# Altium schematic symbol library Data Acquisition - Digital to Analog Converters (DAC).SchLib: 3 symbols
Pins are listed as number, name and electrical type; pins without a type are passive.

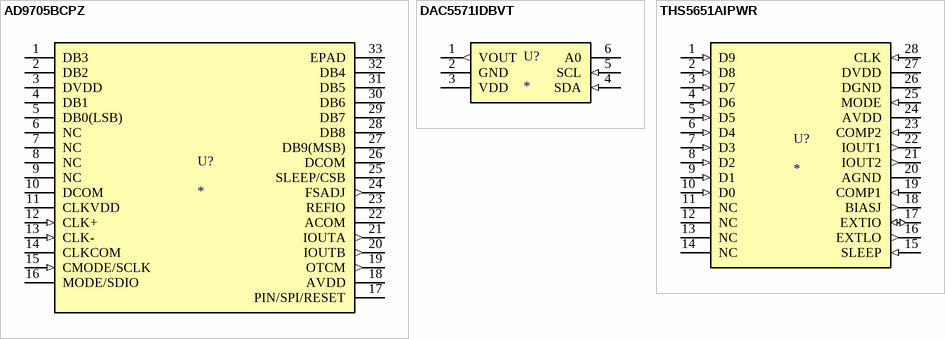
[diagram p0: symbols AD9705BCPZ to THS5651AIPWR]

## AD9705BCPZ
designator U?
IC DAC 10BIT A-OUT 32LFCSP; Supplier 1: Digi-Key; Supplier 2: Mouser; Supplier 3: Arrow Electronics; Supplier Part Number 1: AD9705BCPZ-ND; Supplier Part Number 2: 584-AD9705BCPZ; Supplier Part Number 3: AD9705BCPZ
footprint ANALOG_32-LFCSP-VQ (5x5)
pins: 1 DB3, 2 DB2, 3 DVDD (power), 4 DB1, 5 DB0(LSB), 6 NC, 7 NC, 8 NC, 9 NC, 10 DCOM, 11 CLKVDD (power), 12 CLK+ (in), 13 CLK- (in), 14 CLKCOM, 15 CMODE/SCLK (in), 16 MODE/SDIO, 17 PIN/SPI/RESET, 18 AVDD (power), 19 OTCM (out), 20 IOUTB (out), 21 IOUTA (out), 22 ACOM, 23 REFIO, 24 FSADJ (out), 25 SLEEP/CSB, 26 DCOM, 27 DB9(MSB), 28 DB8, 29 DB7, 30 DB6, 31 DB5, 32 DB4, 33 EPAD

## DAC5571IDBVT
designator U?
IC DAC 8BIT V-OUT SOT23-6; Supplier 1: Digi-Key; Supplier 2: Farnell; Supplier 3: Mouser; Supplier Part Number 1: 296-17199-1-ND; Supplier Part Number 2: 3005645; Supplier Part Number 3: 595-DAC5571IDBVT
footprint TI_SOT-23-6
pins: 1 VOUT (out), 2 GND (power), 3 VDD (power), 4 SDA (in), 5 SCL (in), 6 A0

## THS5651AIPWR
designator U?
IC DAC 10BIT A-OUT 28TSSOP
footprint TI_28-TSSOP
pins: 1 D9 (in), 2 D8 (in), 3 D7 (in), 4 D6 (in), 5 D5 (in), 6 D4 (in), 7 D3 (in), 8 D2 (in), 9 D1 (in), 10 D0 (in), 11 NC, 12 NC, 13 NC, 14 NC, 15 SLEEP (in), 16 EXTLO (out), 17 EXTIO (io), 18 BIASJ (out), 19 COMP1 (in), 20 AGND (power), 21 IOUT2 (out), 22 IOUT1 (out), 23 COMP2 (in), 24 AVDD (power), 25 MODE (in), 26 DGND (power), 27 DVDD (power), 28 CLK (in)